# Altium footprint library WillsFootPrintLibrary.PcbLib: 28 footprints (part 1 of 2)
Each footprint in its own frame and in the unit in brackets; x right, y up, seen from the top. Pads: shape width x height; smd on the part's side, far side on the other; paste and mask are expansions set on the pad; w line width, h text height; cw(c..) or ccw(c..) is an arc to the next point about the centre after c.
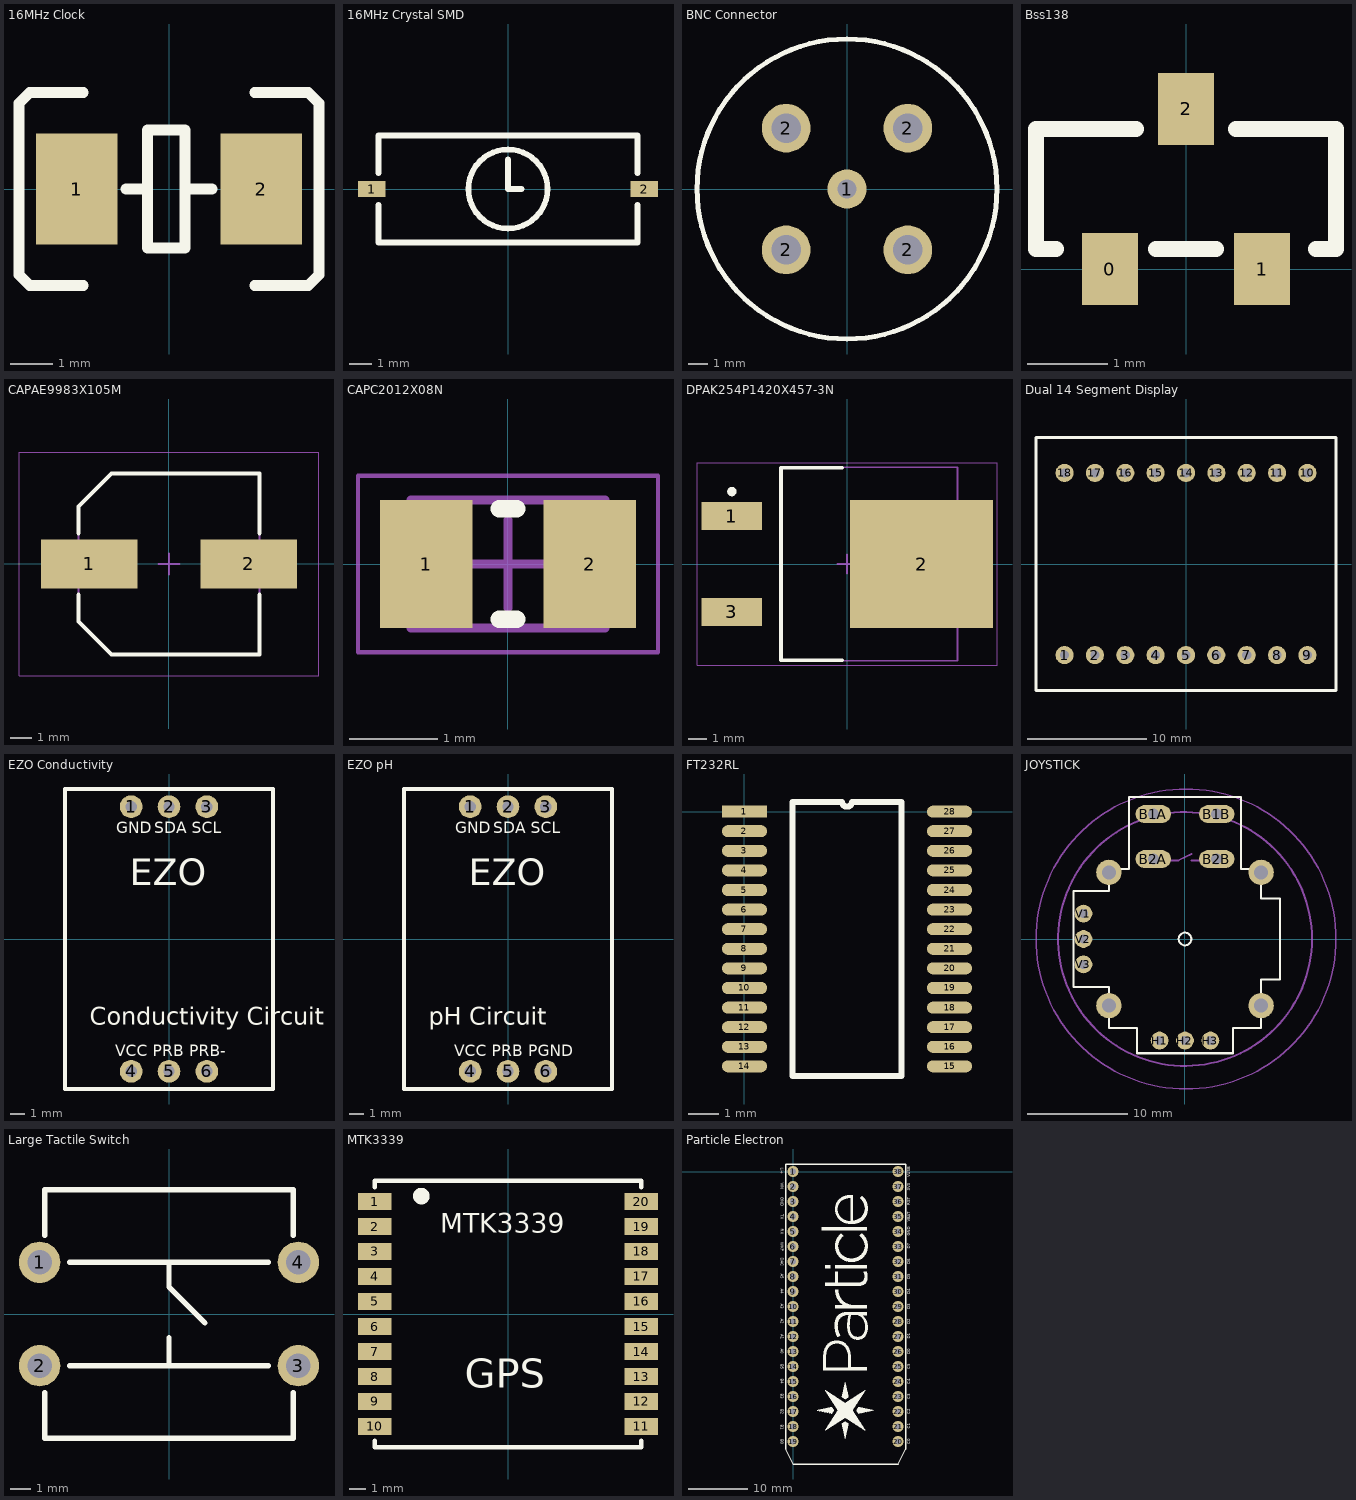
[diagram p0: the footprints below, top view; thin cyan lines are the x and y axes]

## 16MHz Clock [mm]
pads (2):
  rect 1.9x2.6 smd: 1(-2.15,0) 2(2.15,0)
Top Overlay:
  lines w0.254: -2,-2.25 -3.25,-2.25 -3.5,-2 -3.5,2 -3.25,2.25 -2,2.25 ; -1,0 -0.5,0 ; 1,0 0.375,0 ; 2,-2.25 3.25,-2.25 3.5,-2 3.5,2 3.25,2.25 2,2.25 ; -0.5,0 -0.5,1.375 0.375,1.375 0.375,0 ; -0.5,0 -0.5,-1.375 0.375,-1.375 0.375,0

## 16MHz Crystal SMD [mm]
height 4.2
pads (2):
  rect 1.2x0.72 smd: 1(-6,0) 2(6,0)
Top Overlay:
  circle w0.254: c0,0 r1.738
  lines w0.254: -5.7,-0.7 -5.7,-2.35 5.7,-2.35 5.7,-0.7 ; -5.7,0.7 -5.7,2.35 5.7,2.35 5.7,0.7 ; 0,1.3 0,0 0.6,0

## BNC Connector [mm]
height 14
pads (5):
  round 2 hole 1: 1(0,0)
  round 2.5 hole 1.5: 2(-3.125,-3.125) 2(-3.125,3.125) 2(3.125,-3.125) 2(3.125,3.125)
Top Overlay:
  circle w0.254: c0,0 r7.711

## Bss138 [mm]
height 1.15
pads (3):
  rect 0.7x0.9 smd: 0(-0.95,0) 1(0.95,0) 2(0,2)
Top Overlay:
  lines w0.203: -1.625,0.25 -1.875,0.25 -1.875,1.75 -0.625,1.75 ; -0.375,0.25 0.375,0.25 ; 0.625,1.75 1.875,1.75 1.875,0.25 1.625,0.25

## CAPAE9983X105M [mm] "Aluminum Electrolytic Capacitor, Body 8.30x8.30x10.50mm, IPC Low Density"
height 10.5
pads (2):
  rect 4.55x2.3 smd: 1(-3.75,0) 2(3.75,0)
Top Overlay:
  lines w0.2: -4.25,-1.45 -4.25,-2.7 -2.7,-4.25 4.25,-4.25 4.25,-1.45 ; -4.25,1.45 -4.25,2.7 -2.7,4.25 4.25,4.25 4.25,1.45
Mechanical 13:
  lines w0.1: -4.25,-2.7 -4.25,2.7 -2.7,4.25 4.25,4.25 4.25,-4.25 -2.7,-4.25 -4.25,-2.7
Mechanical 15:
  lines w0.05: -7.05,-5.25 7.05,-5.25 7.05,5.25 -7.05,5.25 -7.05,-5.25
  lines w0.1: -0.5,0 0.5,0 ; 0,-0.5 0,0.5
3D body: height 10.5, standoff 0, extent -4.25,-4.25 4.25,4.247
3D body: height 3.5, standoff 0, extent -4.25,-4.25 4.25,4.25

## CAPC2012X08N [mm] "Chip Capacitor, 2-Leads, Body 2.00x1.25mm, IPC Medium Density"
height 0.78
pads (2):
  rect 1.05x1.45 smd: 1(-0.925,0) 2(0.925,0)
Top Overlay:
  lines w0.2: -0.1,-0.625 0.1,-0.625 ; -0.1,0.625 0.1,0.625
Mechanical 13:
  lines w0.1: -1.1,-0.725 -1.1,0.725 1.1,0.725 1.1,-0.725 -1.1,-0.725
Mechanical 15:
  lines w0.05: -1.7,-1 -1.7,1 1.7,1 1.7,-1 -1.7,-1
  lines w0.1: -0.5,0 0.5,0 ; 0,-0.5 0,0.5
3D body: height 0.78, standoff 0, extent -0.72,-0.725 0.72,0.725
3D body: height 0.78, standoff 0, extent -1.1,-0.725 -0.72,0.725
3D body: height 0.78, standoff 0, extent 0.72,-0.725 1.1,0.725

## DPAK254P1420X457-3N [mm] "D2-PAK, 3-Pads, Body 7.77x8.48mm (max), IPC Medium Density"
height 4.58
pads (3):
  rect 3.2x1.5 smd: 1(-6.1,2.54) 3(-6.1,-2.54)
  rect 7.6x6.8 smd: 2(3.95,0)
Top Overlay:
  circle w0.25: c-6.1,3.84 r0.125
  lines w0.2: -0.25,-5.1 -3.5,-5.1 -3.5,5.1 -0.25,5.1
Mechanical 13:
  lines w0.1: -3.5,-5.125 -3.5,5.125 5.85,5.125 5.85,-5.125 -3.5,-5.125
Mechanical 15:
  lines w0.05: -7.95,-5.375 -7.95,5.375 7.95,5.375 7.95,-5.375 -7.95,-5.375
  lines w0.1: -0.5,0 0.5,0 ; 0,-0.5 0,0.5
3D body: height 4.58, standoff 0, extent -3.5,-5.125 5.85,5.125

## Dual 14 Segment Display [mil]
height 303.15
pads (18):
  round 60 hole 30: 1(-400,-300) 2(-300,-300) 3(-200,-300) 4(-100,-300) 5(0,-300) 6(99.61,-300) 7(200,-300) 8(300,-300) 9(400,-300) 10(400,300) 11(300,300) 12(200,300) 13(100,300) 14(0,300) 15(-100,300) 16(-200,300) 17(-300,300) 18(-400,300)
Top Overlay:
  lines w10: -494.09,-416.34 494.09,-416.34 494.09,416.34 -494.09,416.34 -494.09,-416.34

## EZO Conductivity [mil]
pads (6):
  round 60 hole 30: 1(-100,350) 2(0,350) 3(100,350) 4(-100,-350) 5(0,-350) 6(100,-350)
Top Overlay:
  lines w10: -275,-396.85 -275,396.85 275,396.85 275,-396.85 -275,-396.85
  text "EZO" at -103.35,118.11 h120
  text "Conductivity Circuit" at -209.65,-242.13 h80
  text "GND" at -139.76,280 h30
  text "SDA" at -38.39,280 h30
  text "SCL" at 60.04,280 h30
  text "VCC" at -141.73,-310 h30
  text "PRB" at -43.31,-310 h30
  text "PRB-" at 54.13,-310 h30

## EZO pH [mil]
pads (6):
  round 60 hole 30: 1(-100,350) 2(0,350) 3(100,350) 4(-100,-350) 5(0,-350) 6(100,-350)
Top Overlay:
  lines w10: -275,-396.85 275,-396.85 275,396.85 -275,396.85 -275,-396.85
  text "PGND" at 54.13,-310 h30
  text "PRB" at -43.31,-310 h30
  text "VCC" at -141.73,-310 h30
  text "SCL" at 60.04,280 h30
  text "SDA" at -38.39,280 h30
  text "GND" at -139.76,280 h30
  text "pH Circuit" at -209.65,-242.13 h80
  text "EZO" at -103.35,118.11 h120

## FT232RL [mm]
height 2
pads (28):
  rect 1.5x0.4 smd: 1(0,0)
  oval 1.5x0.4 smd: 2(0,-0.65) 3(0,-1.3) 4(0,-1.95) 5(0,-2.6) 6(0,-3.25) 7(0,-3.9) 8(0,-4.55) 9(0,-5.2) 10(0,-5.85) 11(0,-6.5) 12(0,-7.15) 13(0,-7.8) 14(0,-8.45) 15(6.8,-8.45) 16(6.8,-7.8) 17(6.8,-7.15) 18(6.8,-6.5) 19(6.8,-5.85) 20(6.8,-5.2) 21(6.8,-4.55) 22(6.8,-3.9) 23(6.8,-3.25) 24(6.8,-2.6) 25(6.8,-1.95) 26(6.8,-1.3) 27(6.8,-0.65) 28(6.8,0)
Top Overlay:
  lines w0.2: 1.585,-8.775 5.215,-8.775 5.215,0.325 3.562,0.325 cw(c3.4,0.325) 3.237,0.325 1.585,0.325 1.585,-8.775

## JOYSTICK [mil] "JOYSTICK"
pads (14):
  oval 140x70 hole 43.31: B1A(-125,492.17) B1B(125,492.17) B2A(-125,315) B2B(125,315)
  round 70 hole 35: H1(-100,-400) H2(0,-400) H3(100,-400) V1(-400,100) V2(-400,0) V3(-400,-100)
  round 100 hole 55: MOUNT1(-300,262.5) MOUNT2(-300,-262.5) MOUNT3(300,-262.5) MOUNT4(300,262.5)
Top Overlay:
  circle w8: c0,0 r25
  lines w8: -440,-190 -300,-190 -300,-350 -190,-350 -190,-450 190,-450 190,-350 300,-350 300,-160 375,-160 375,160 300,160 300,275 220,275 220,560 -220,560 -220,275 -300,275 -300,190 -440,190 -440,-190
Mechanical 16:
  circle w8: c0,0 r500
  circle w5: c3.94,0 r590.88
  lines w8: -75,310 -25,310 25,335 ; 25,310 75,310

## Large Tactile Switch [mm] "Removable Covers"
height 5
pads (4):
  round 2 hole 1.2: 1(-6.25,2.5) 2(-6.25,-2.5) 3(6.25,-2.5) 4(6.25,2.5)
Top Overlay:
  lines w0.254: -6,-3.8 -6,-6 6,-6 6,-3.8 ; -6,3.8 -6,6 6,6 6,3.8 ; -4.8,-2.5 4.8,-2.5 ; -4.8,2.5 4.8,2.5 ; 0,-2.475 0,-1.15 ; 0,2.5 0,1.3 1.738,-0.437

## MTK3339 [mm] "GPS Chip"
height 5.2
pads (20):
  rect 2x1 smd: 1(-8,6.75) 2(-8,5.25) 3(-8,3.75) 4(-8,2.25) 5(-8,0.75) 6(-8,-0.75) 7(-8,-2.25) 8(-8,-3.75) 9(-8,-5.25) 10(-8,-6.75) 11(8,-6.75) 12(8,-5.25) 13(8,-3.75) 14(8,-2.25) 15(8,-0.75) 16(8,0.75) 17(8,2.25) 18(8,3.75) 19(8,5.25) 20(8,6.75)
Top Overlay:
  circle w0.5: c-5.2,7.075 r0.25
  lines w0.254: -8,-7.6 -8,-8 8,-8 8,-7.6 ; -8,7.6 -8,8 8,8 8,7.6
  text "MTK3339" at -4.075,4.475 h2
  text "GPS" at -2.6,-5 h3

## Particle Electron [mil] "Particle Electron Footprint"
height 472.44
pads (38):
  round 74 hole 40: 1(0,0) 2(0,-100) 3(0,-200) 4(0,-300) 5(0,-400) 6(0,-500) 7(0,-600) 8(0,-700) 9(0,-800) 10(0,-900) 11(0,-1000) 12(0,-1100) 13(0,-1200) 14(0,-1300) 15(0,-1400) 16(0,-1500) 17(0,-1600) 18(0,-1700) 19(0,-1800) 20(700,-1800) 21(700,-1700) 22(700,-1600) 23(700,-1500) 24(700,-1400) 25(700,-1300) 26(700,-1200) 27(700,-1100) 28(700,-1000) 29(700,-900) 30(700,-800) 31(700,-700) 32(700,-600) 33(700,-500) 34(700,-400) 35(700,-300) 36(700,-200) 37(700,-100) 38(700,0)
Top Overlay:
  drawing of 20 lines, arcs and shapes, not listed
  text "VUSB" at 781.5,-38.39 h20
  text "Li+" at -81.69,24.61 h20
  text "B0" at -81.69,-1784.45 h20
  text "B1" at -81.69,-1687.99 h20
  text "B2" at -81.69,-1584.65 h20
  text "B3" at -81.69,-1483.27 h20
  text "B4" at -81.69,-1382.87 h20
  text "B5" at -81.69,-1283.46 h20
  text "A0" at -81.69,-1182.09 h20
  text "A1" at -81.69,-1085.63 h20
  text "A2" at -81.69,-982.28 h20
  text "A3" at -81.69,-880.91 h20
  text "A4" at -81.69,-781.5 h20
  text "A5" at -81.69,-683.07 h20
  text "GND" at 781.5,-427.17 h20
  text "VBAT" at 781.5,-336.61 h20
  text "RST" at 781.5,-226.38 h20
  text "3V3" at 781.5,-126.97 h20
  text "DAC" at -81.69,-573.82 h20
  text "WKP" at -81.69,-470.47 h20
  text "RX" at -81.69,-382.87 h20
  text "TX" at -81.69,-283.46 h20
  text "GND" at -81.69,-172.24 h20
  text "VIN" at -81.69,-74.8 h20
  text "D6" at 781.5,-617.13 h20
  text "D5" at 781.5,-718.5 h20
  text "D4" at 781.5,-816.93 h20
  text "D3" at 781.5,-918.31 h20
  text "D2" at 781.5,-1018.7 h20
  text "D1" at 781.5,-1115.16 h20
  text "D0" at 781.5,-1217.52 h20
  text "C5" at 781.5,-1317.91 h20
  text "C4" at 781.5,-1419.29 h20
  text "C3" at 781.5,-1517.72 h20
  text "C2" at 781.5,-1619.09 h20
  text "C1" at 781.5,-1714.57 h20
  text "C0" at 781.5,-1817.91 h20
  text "D7" at 781.5,-515.75 h20

## PCBComponent_1 [mm]